# EAGLE library part J-14- (library con-headers-jp)
HEADER JACK PINS
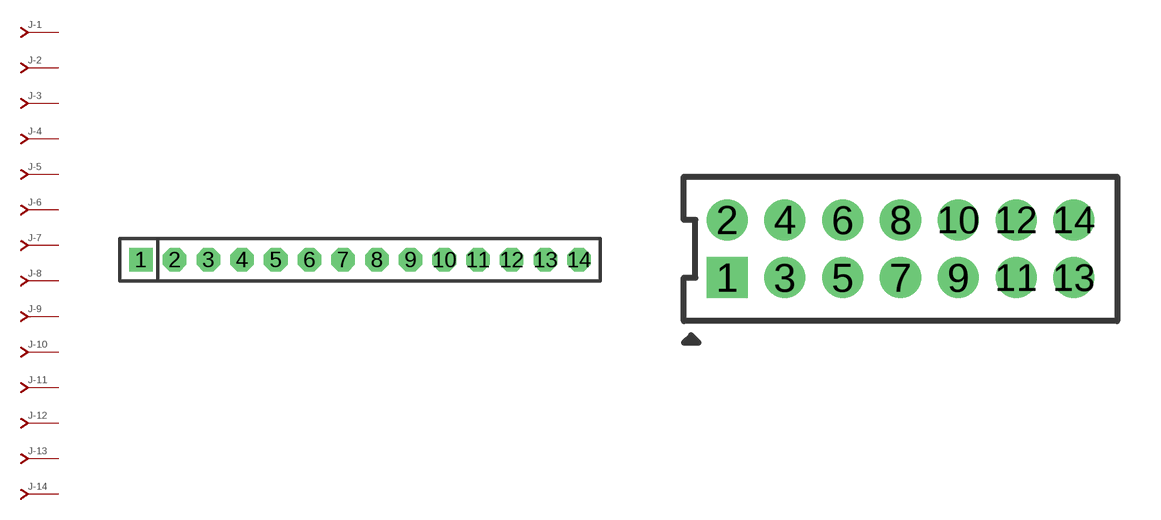
[diagram p4: symbol with the pads of SIP-100-14; footprints SIP-100-14, 79107-14]

Designator prefix J; gates -1=J-N -2=J-N -3=J-N -4=J-N -5=J-N -6=J-N -7=J-N -8=J-N -9=J-N -10=J-N -11=J-N -12=J-N -13=J-N -14=J-N

## J-14-SIP-100  [SIP-100-14]
1  -1:J  pas
2  -2:J  pas
3  -3:J  pas
4  -4:J  pas
5  -5:J  pas
6  -6:J  pas
7  -7:J  pas
8  -8:J  pas
9  -9:J  pas
10  -10:J  pas
11  -11:J  pas
12  -12:J  pas
13  -13:J  pas
14  -14:J  pas

## J-14-79107  [79107-14]
Pads as for SIP-100-14

## J-14-79109  [79109-14]
Pads as for SIP-100-14

## J-14-87264  [87264-14]
Pads as for SIP-100-14

## J-14-87340  [87340-14]
Pads as for SIP-100-14

## J-14-87368  [87368-14]
Pads as for SIP-100-14

## J-14-535512  [535512-14]
Pads as for SIP-100-14

## J-14-100-2X07  [HDR-100-2X07]
Pads as for SIP-100-14

## J-14-100-2X07_M  [HDR-100-2X07_M]
Pads as for SIP-100-14

## J-14-2MM-2X07  [HDR-2MM-2X07]
Pads as for SIP-100-14

## J-14-2MM-2X07_M  [HDR-2MM-2X07_M]
Pads as for SIP-100-14

## Footprint SIP-100-14 (pad centres in mm)
SIP Header - 0.1"
drill 0.914 pad 1.778 square: 1 -16.51,0
drill 0.914 pad 1.778 octagon: 2 -13.97,0; 3 -11.43,0; 4 -8.89,0; 5 -6.35,0; 6 -3.81,0; 7 -1.27,0; 8 1.27,0; 9 3.81,0; 10 6.35,0; 11 8.89,0; 12 11.43,0; 13 13.97,0; 14 16.51,0

## Footprint 79107-14 (pad centres in mm)
Molex Board-To-Board Receptacal 2.00mm (.079") Pitch Milli-Grid Header, Vertical, Through-Hole Mates with: 87759, 87762, 87758, 87760
drill 0.914 square: 1 -6,-1
drill 0.914 round: 2 -6,1; 3 -4,-1; 4 -4,1; 5 -2,-1; 6 -2,1; 7 0,-1; 8 0,1; 9 2,-1; 10 2,1; 11 4,-1; 12 4,1; 13 6,-1; 14 6,1

## Footprint 79109-14 (pad centres in mm)
Molex Board-to-Board Receptacal 2.00mm (.079") Pitch Milli-Grid Header, Vertical, Top/Bottom Entry Mates with: 87758, 87759, 87760, 87831, 87832, 87833
smd 1.12 x 1.83: 1 -6,-2.65; 2 -6,2.65; 3 -4,-2.65; 4 -4,2.65; 5 -2,-2.65; 6 -2,2.65; 7 0,-2.65; 8 0,2.65; 9 2,-2.65; 10 2,2.65; 11 4,-2.65; 12 4,2.65; 13 6,-2.65; 14 6,2.65
hole 0.914 at -5,0
hole 0.914 at -6,1
hole 0.914 at -6,-1
hole 0.914 at -4,-1
hole 0.914 at -4,1
hole 0.914 at -2,-1
hole 0.914 at -2,1
hole 0.914 at 5,0
hole 0.914 at 0,1
hole 0.914 at 0,-1
hole 0.914 at 2,1
hole 0.914 at 2,-1
hole 0.914 at 4,1
hole 0.914 at 4,-1
hole 0.914 at 6,1
hole 0.914 at 6,-1

## Footprint 87264-14 (pad centres in mm)
Molex Board-To-Board Receptacal 2.00mm (.079") Pitch Milli-Grid Header, Side Entry Mates with 2mm(.079") Mill-Grid Header
drill 0.914 square: 1 -6,-2.25
drill 0.914 round: 2 -6,2.25; 3 -4,-2.25; 4 -4,2.25; 5 -2,-2.25; 6 -2,2.25; 7 0,-2.25; 8 0,2.25; 9 2,-2.25; 10 2,2.25; 11 4,-2.25; 12 4,2.25; 13 6,-2.25; 14 6,2.25

## Footprint 87340-14 (pad centres in mm)
Molex Board-To-Board Receptacal 2.00mm (.079") Pitch Milli-Grid Header, Vertical, Top/Bottom Entry Mates with: 87758, 87759, 87760, 87831, 87832, 87833
smd 1 x 1.75: 1 -6,-2.5; 2 -6,2.5; 3 -4,-2.5; 4 -4,2.5; 5 -2,-2.5; 6 -2,2.5; 7 0,-2.5; 8 0,2.5; 9 2,2.5; 10 2,-2.5; 11 4,-2.5; 12 4,2.5; 13 6,2.5; 14 6,-2.5
hole 0.914 at -7,0
hole 0.914 at -6,1
hole 0.914 at -6,-1
hole 0.914 at -4,-1
hole 0.914 at -4,1
hole 0.914 at 7,0
hole 0.914 at -2,1
hole 0.914 at -2,-1
hole 0.914 at 0,1
hole 0.914 at 0,-1
hole 0.914 at 2,-1
hole 0.914 at 2,1
hole 0.914 at 4,1
hole 0.914 at 4,-1
hole 0.914 at 6,1
hole 0.914 at 6,-1

## Footprint 87368-14 (pad centres in mm)
Molex Board-To-Board Receptacal 2.00mm (.079") Pitch Milli-Grid Header, Side Entry SMD Mates with 2mm(.079") Mill-Grid Header
smd 1 x 2.8: 1 -6,-3.1; 2 -6,3.1; 3 -4,-3.1; 4 -4,3.1; 5 -2,-3.1; 6 -2,3.1; 7 0,-3.1; 8 0,3.1; 9 2,-3.1; 10 2,3.1; 11 4,-3.1; 12 4,3.1; 13 6,-3.1; 14 6,3.1
hole 0.914 at -6,0
hole 0.914 at 0,0

## Footprint 535512-14 (pad centres in mm)
AMPMODU - 535512 Series
drill 1.016 square: 1 -7.62,0
drill 1.016 octagon: 2 -7.62,7.938; 3 -5.08,0; 4 -5.08,7.938; 5 -2.54,0; 6 -2.54,7.938; 7 0,0; 8 0,7.938; 9 2.54,0; 10 2.54,7.938; 11 5.08,0; 12 5.08,7.938; 13 7.62,0; 14 7.62,7.938

## Footprint HDR-100-2X07 (pad centres in mm)
PIN HEADER - 0.1"
drill 1.016 square: 1 -7.62,-1.27
drill 1.016 octagon: 2 -7.62,1.27; 3 -5.08,-1.27; 4 -5.08,1.27; 5 -2.54,-1.27; 6 -2.54,1.27; 7 0,-1.27; 8 0,1.27; 9 2.54,-1.27; 10 2.54,1.27; 11 5.08,-1.27; 12 5.08,1.27; 13 7.62,-1.27; 14 7.62,1.27

## Footprint HDR-100-2X07_M (pad centres in mm)
PIN HEADER - 0.1" - MIRRORED
drill 1.016 square: 1 -7.62,1.27
drill 1.016 octagon: 2 -7.62,-1.27; 3 -5.08,1.27; 4 -5.08,-1.27; 5 -2.54,1.27; 6 -2.54,-1.27; 7 0,1.27; 8 0,-1.27; 9 2.54,1.27; 10 2.54,-1.27; 11 5.08,1.27; 12 5.08,-1.27; 13 7.62,1.27; 14 7.62,-1.27

## Footprint HDR-2MM-2X07 (pad centres in mm)
PIN HEADER - 2MM"
drill 0.914 square: 1 -6,-1
drill 0.914 round: 2 -6,1; 3 -4,-1; 4 -4,1; 5 -2,-1; 6 -2,1; 7 0,-1; 8 0,1; 9 2,-1; 10 2,1; 11 4,-1; 12 4,1; 13 6,-1; 14 6,1

## Footprint HDR-2MM-2X07_M (pad centres in mm)
PIN HEADER - 2MM - MIRRORED
drill 0.914 square: 1 -6,1
drill 0.914 round: 2 -6,-1; 3 -4,1; 4 -4,-1; 5 -2,1; 6 -2,-1; 7 0,1; 8 0,-1; 9 2,1; 10 2,-1; 11 4,1; 12 4,-1; 13 6,1; 14 6,-1